# Altium footprint library testpad.PCBLIB: 42 footprints (part 1 of 3)
Each footprint in its own frame and in the unit in brackets; x right, y up, seen from the top. Pads: shape width x height; smd on the part's side, far side on the other; paste and mask are expansions set on the pad; w line width, h text height; cw(c..) or ccw(c..) is an arc to the next point about the centre after c.
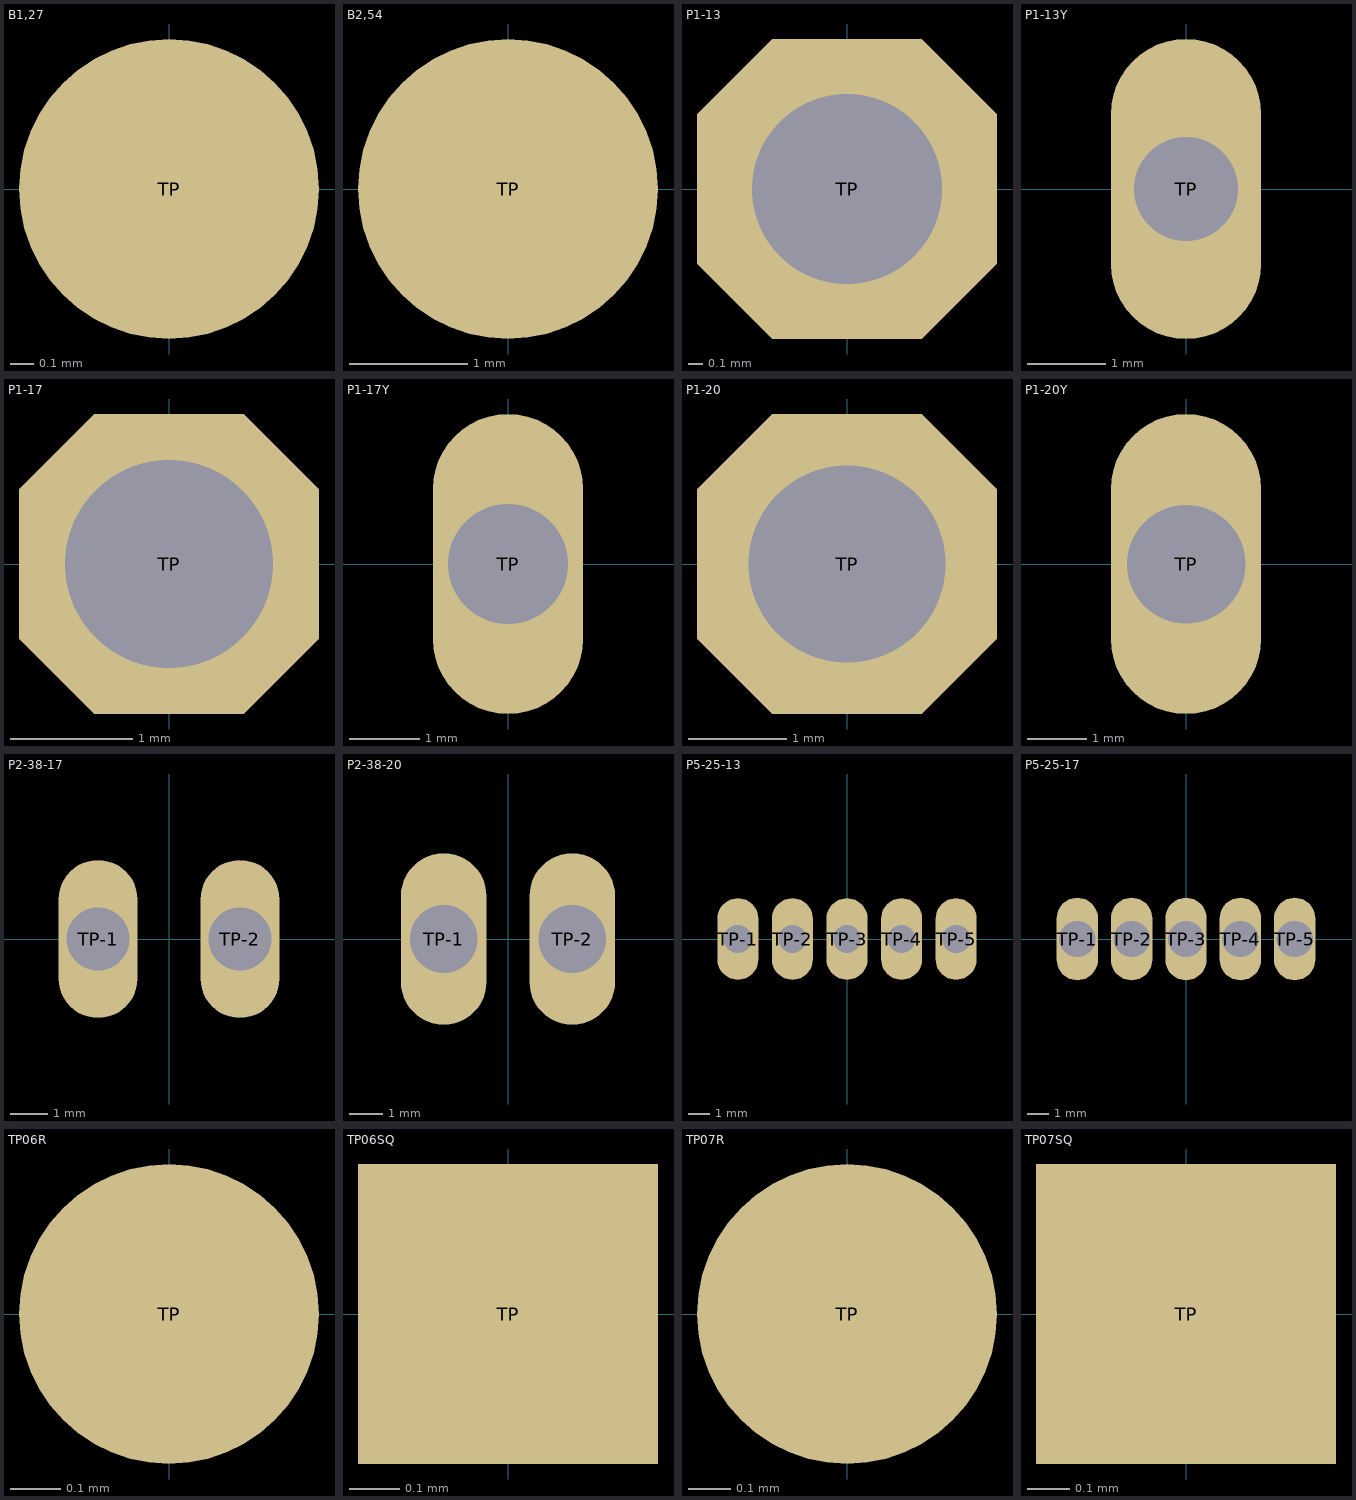
[diagram p0: the footprints below, top view; thin cyan lines are the x and y axes]

## B1,27 [mil]
pads (1):
  rrect100% 50x50 smd paste-25: TP(0,0)
Mechanical 22:
  lines w0.09: -25,0 25,0 ; 0,-25 0,25

## B2,54 [mil]
pads (1):
  rrect100% 100x100 smd paste-50: TP(0,0)
Mechanical 22:
  circle w10: c0,0 r25
  lines w0.09: -25,0 25,0 ; 0,-25 0,25

## P1-13 [mil]
pads (1):
  oct 82.3x82.3 hole 52: TP(0,0)
Mechanical 18:
  circle w6: c0,0 r30
  rectangle: -13,-13 13,13

## P1-13Y [mil]
pads (1):
  oval 75x150 hole 52: TP(0,0)
Mechanical 18:
  circle w6: c0,0 r30
  rectangle: -13,-13 13,13

## P1-17 [mil]
pads (1):
  oct 96.82x96.82 hole 67: TP(0,0)
Mechanical 18:
  circle w6: c0,0 r32
  rectangle: -13,-13 13,13

## P1-17Y [mil]
pads (1):
  oval 83.5x167 hole 67: TP(0,0)
Mechanical 18:
  circle w6: c0,0 r32
  rectangle: -13,-13 13,13

## P1-20 [mil]
pads (1):
  oct 120.06x120.06 hole 79: TP(0,0)
Mechanical 18:
  circle w6: c0,0 r40
  rectangle: -13,-13 13,13

## P1-20Y [mil]
pads (1):
  oval 100x200 hole 79: TP(0,0)
Mechanical 18:
  circle w6: c0,0 r40
  rectangle: -13,-13 13,13

## P2-38-17 [mil]
pads (2):
  oval 83.5x167 hole 67: TP-1(-75,0) TP-2(75,0)
Mechanical 18:
  circle w6: c-75,0 r32
  circle w6: c75,0 r32
  rectangle: -88,-13 -62,13
  rectangle: 62,-13 88,13

## P2-38-20 [mil]
pads (2):
  oval 100x200 hole 79: TP-1(-75,0) TP-2(75,0)
Mechanical 18:
  circle w6: c-75,0 r40
  circle w6: c75,0 r40
  rectangle: -88,-13 -62,13
  rectangle: 62,-13 88,13

## P5-25-13 [mil]
pads (5):
  oval 75x150 hole 52: TP-1(-200,0) TP-2(-100,0) TP-3(0,0) TP-4(100,0) TP-5(200,0)
Mechanical 18:
  circle w6: c0,0 r30
  circle w6: c100,0 r30
  circle w6: c200,0 r30
  circle w6: c-100,0 r30
  circle w6: c-200,0 r30
  rectangle: -13,-13 13,13
  rectangle: 87,-13 113,13
  rectangle: 187,-13 213,13
  rectangle: -113,-13 -87,13
  rectangle: -213,-13 -187,13

## P5-25-17 [mil]
pads (5):
  oval 76x152 hole 67: TP-1(-200,0) TP-2(-100,0) TP-3(0,0) TP-4(100,0) TP-5(200,0)
Mechanical 18:
  circle w6: c0,0 r32
  circle w6: c-200,0 r32
  circle w6: c-100,0 r32
  circle w6: c100,0 r32
  circle w6: c200,0 r32
  rectangle: -13,-13 13,13
  rectangle: -213,-13 -187,13
  rectangle: -113,-13 -87,13
  rectangle: 87,-13 113,13
  rectangle: 187,-13 213,13

## TP06R [mil]
pads (1):
  rrect100% 23.62x23.62 smd paste-11.81: TP(0,0)

## TP06SQ [mil]
pads (1):
  rect 23.61x23.61 smd paste-11.8: TP(0,0)

## TP07R [mil]
pads (1):
  rrect100% 27.56x27.56 smd paste-13.78: TP(0,0)

## TP07SQ [mil]
pads (1):
  rect 27.56x27.56 smd paste-13.78: TP(0,0)